# Altium footprint library USPN4.PcbLib: 1 footprints
Each footprint in its own frame and in the unit in brackets; x right, y up, seen from the top. Pads: shape width x height; smd on the part's side, far side on the other; paste and mask are expansions set on the pad; w line width, h text height; cw(c..) or ccw(c..) is an arc to the next point about the centre after c.
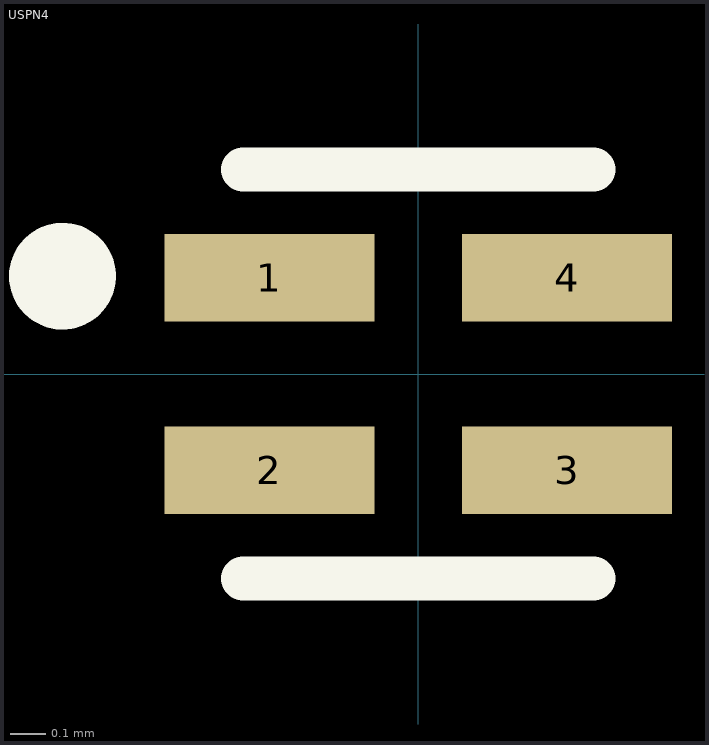
[diagram p0: the footprint, top view; thin cyan lines are the x and y axes]

## USPN4 [mm]
height 0.8
pads (4):
  rect 0.6x0.25 smd paste+0 mask+0.07: 1(-0.425,0.275) 2(-0.425,-0.275) 3(0.425,-0.275) 4(0.425,0.275)
Top Overlay:
  circle w0.152: c-1.016,0.279 r0.076
  lines w0.127: -0.5,-0.584 0.5,-0.584 ; -0.5,0.584 0.5,0.584
3D body: height 0.5, standoff 0.01, extent -0.6,-0.45 0.6,0.45